# EAGLE library part DRV8303_DCA_48 (library drv8303)
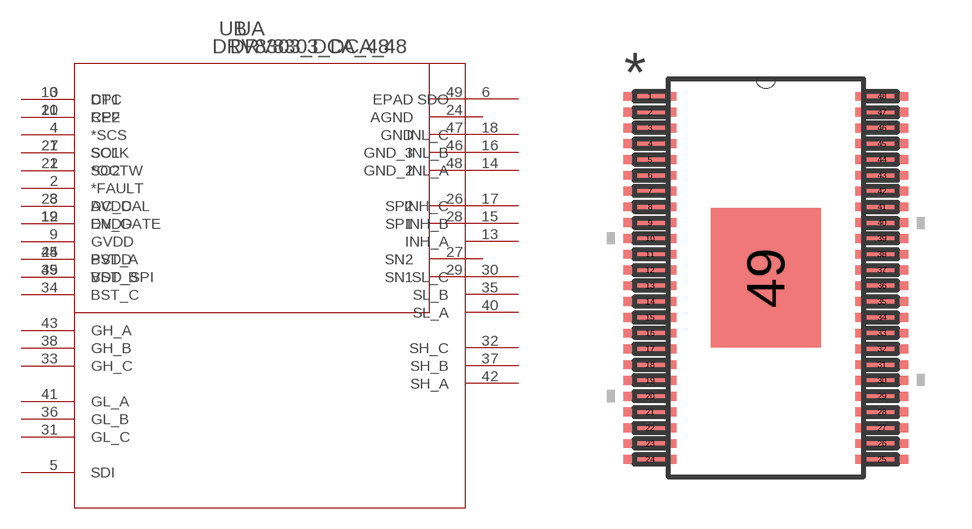
[diagram p0: symbol with the pads of DCA48_4P42X3P48; footprint DCA48_4P42X3P48]

Designator prefix U; gates A=DRV8303_DCA_48 B=DRV8303_DCA_48_00

## DRV8303_DCA_48 (MANUFACTURER_PART_NUMBER: drv8303_dca_48; VENDOR: Texas Instruments)  [DCA48_4P42X3P48]
1  A:*OCTW  out
2  A:*FAULT  out
3  A:DTC  in
4  A:*SCS  in
5  A:SDI  in
6  A:SDO  out
7  A:SCLK  in
8  A:DC_CAL  in
9  B:GVDD  pwr
10  B:CP1  pwr
11  B:CP2  pwr
12  A:EN_GATE  in
13  A:INH_A  in
14  A:INL_A  in
15  A:INH_B  in
16  A:INL_B  in
17  A:INH_C  in
18  A:INL_C  in
19  B:DVDD  pwr
20  A:REF  in
21  B:SO1  out
22  B:SO2  out
23  B:AVDD  pwr
24  B:AGND  pwr
25  B:PVDD  pwr
26  B:SP2  in
27  B:SN2  in
28  B:SP1  in
29  B:SN1  in
30  A:SL_C  in
31  A:GL_C  out
32  A:SH_C  in
33  A:GH_C  out
34  A:BST_C  pwr
35  A:SL_B  in
36  A:GL_B  out
37  A:SH_B  in
38  A:GH_B  out
39  A:BST_B  pwr
40  A:SL_A  in
41  A:GL_A  out
42  A:SH_A  in
43  A:GH_A  out
44  A:BST_A  pwr
45  B:VDD_SPI  in
46  B:GND_3  out
47  B:GND  out
48  B:GND_2  out
49  B:EPAD  pas

## Footprint DCA48_4P42X3P48 (pad centres in mm)
smd 1.676 x 0.279: 1 -3.67,5.75; 2 -3.67,5.25; 3 -3.67,4.75; 4 -3.67,4.25; 5 -3.67,3.75; 6 -3.67,3.25; 7 -3.67,2.75; 8 -3.67,2.25; 9 -3.67,1.75; 10 -3.67,1.25; 11 -3.67,0.75; 12 -3.67,0.25; 13 -3.67,-0.25; 14 -3.67,-0.75; 15 -3.67,-1.25; 16 -3.67,-1.75; 17 -3.67,-2.25; 18 -3.67,-2.75; 19 -3.67,-3.25; 20 -3.67,-3.75; 21 -3.67,-4.25; 22 -3.67,-4.75; 23 -3.67,-5.25; 24 -3.67,-5.75; 25 3.67,-5.75; 26 3.67,-5.25; 27 3.67,-4.75; 28 3.67,-4.25; 29 3.67,-3.75; 30 3.67,-3.25; 31 3.67,-2.75; 32 3.67,-2.25; 33 3.67,-1.75; 34 3.67,-1.25; 35 3.67,-0.75; 36 3.67,-0.25; 37 3.67,0.25; 38 3.67,0.75; 39 3.67,1.25; 40 3.67,1.75; 41 3.67,2.25; 42 3.67,2.75; 43 3.67,3.25; 44 3.67,3.75; 45 3.67,4.25; 46 3.67,4.75; 47 3.67,5.25; 48 3.67,5.75
smd 3.48 x 4.42: 49 0,0